# EAGLE library part HCTL-2032-SC (library libredaq-comps)
The HCTL-20XX-XX is CMOS ICs that perform the quadrature decoder, counter, and bus interface function.
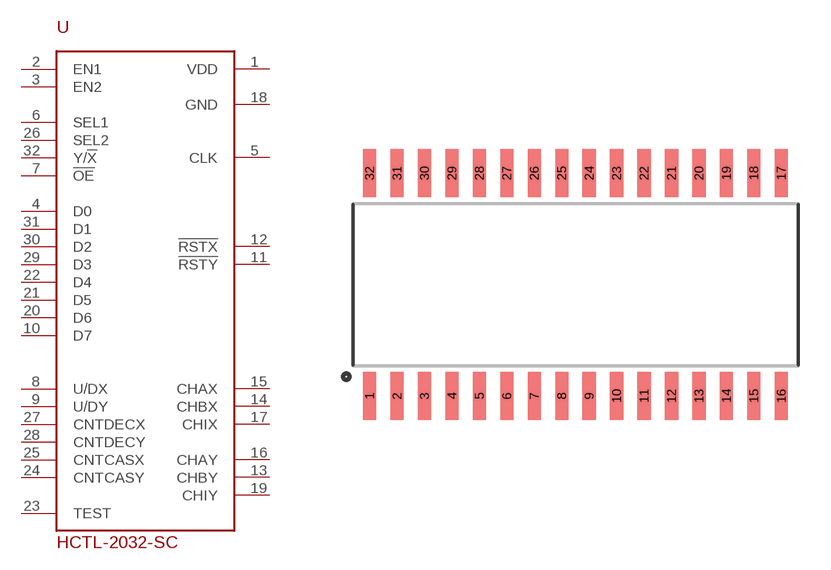
[diagram p4: symbol with the pads of SOIC32; footprint SOIC32]

Designator prefix U

## HCTL-2032-SC  [SOIC32]
1  VDD
2  EN1
3  EN2
4  D0
5  CLK
6  SEL1
7  !OE
8  U/DX
9  U/DY
10  D7
11  !RSTY
12  !RSTX
13  CHBY
14  CHBX
15  CHAX
16  CHAY
17  CHIX
18  GND
19  CHIY
20  D6
21  D5
22  D4
23  TEST
24  CNTCASY
25  CNTCASX
26  SEL2
27  CNTDECX
28  CNTDECY
29  D3
30  D2
31  D1
32  Y/!X

## Footprint SOIC32 (pad centres in mm)
SOIC-32
smd 0.61 x 2.21: 1 -1.905,-5.156; 2 -0.635,-5.156; 3 0.635,-5.156; 4 1.905,-5.156; 5 3.175,-5.156; 6 4.445,-5.156; 7 5.715,-5.156; 8 6.985,-5.156; 9 8.255,-5.156; 10 9.525,-5.156; 11 10.795,-5.156; 12 12.065,-5.156; 13 13.335,-5.156; 14 14.605,-5.156; 15 15.875,-5.156; 16 17.145,-5.156; 17 17.145,5.156; 18 15.875,5.156; 19 14.605,5.156; 20 13.335,5.156; 21 12.065,5.156; 22 10.795,5.156; 23 9.525,5.156; 24 8.255,5.156; 25 6.985,5.156; 26 5.715,5.156; 27 4.445,5.156; 28 3.175,5.156; 29 1.905,5.156; 30 0.635,5.156; 31 -0.635,5.156; 32 -1.905,5.156